# Altium footprint library PCB - LEADLESS - SON - INFINEON PG-TDSON-8-7.PCBLIB: 1 footprints
Each footprint in its own frame and in the unit in brackets; x right, y up, seen from the top. Pads: shape width x height; smd on the part's side, far side on the other; paste and mask are expansions set on the pad; w line width, h text height; cw(c..) or ccw(c..) is an arc to the next point about the centre after c.
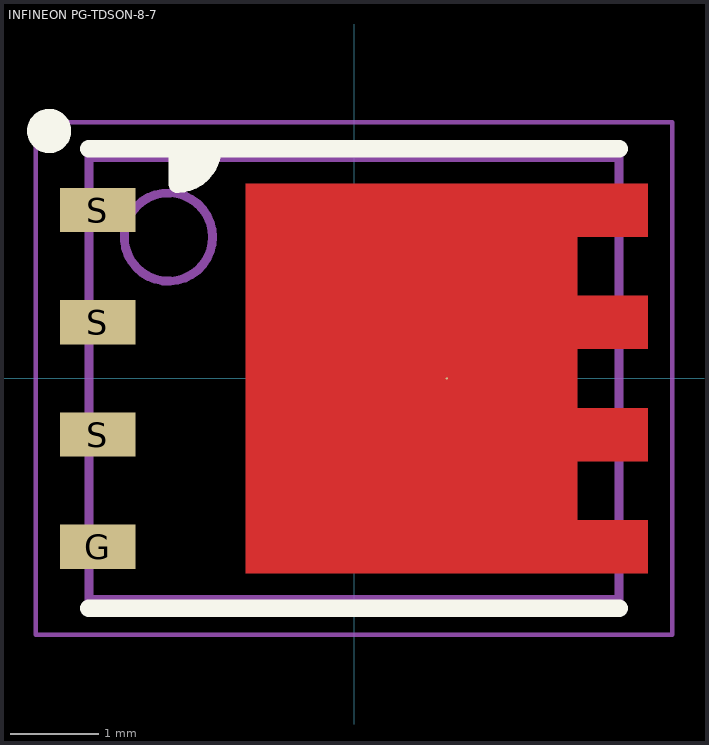
[diagram p0: the footprint, top view; thin cyan lines are the x and y axes]

## INFINEON PG-TDSON-8-7 [mm] "TDSON, 8-Leads, Body 6x5mm, Pitch 1.27mm, Thermal Pad 1.65x2.38mm"
height 1.2
pads (5):
  round 0.025 smd: D(1.05,0)
  rect 0.85x0.5 smd: G(-2.9,-1.905) S(-2.9,-0.635) S(-2.9,0.635) S(-2.9,1.905)
Top Layer:
  region: 2.525,-1.605 3.325,-1.605 3.325,-2.205 -1.225,-2.205 -1.225,2.205 3.325,2.205 3.325,1.605 2.525,1.605 2.525,0.935 3.325,0.935 3.325,0.335 2.525,0.335 2.525,-0.335 3.325,-0.335 3.325,-0.935 2.525,-0.935
Top Overlay:
  circle w0.25: c-3.45,2.8 r0.125
  region: -2,2.6 -1.6,2.6 -1.6,2.52 -1.661,2.373 -1.773,2.261 -1.92,2.2 -2,2.2
  lines w0.2: -3,-2.6 3,-2.6 ; -3,2.6 3,2.6 ; -2,2.6 -2,2.2 ; -1.6,2.6 cw(c-2,2.6) -2,2.2 ; -2,2.2 -2,2.2
Mechanical 13:
  circle w0.1: c-2.1,1.6 r0.5
  lines w0.1: -3,-2.5 3,-2.5 3,2.5 -3,2.5 -3,-2.5
Mechanical 15:
  lines w0.05: -3.6,-2.9 3.6,-2.9 3.6,2.9 -3.6,2.9 -3.6,-2.9
  lines w0.1: -0.5,0 0.5,0 ; 0,-0.5 0,0.5
3D body "PG-TDSON-8.STEP": height 1, standoff 0, extent -3.075,-2.575 3.075,2.575